# Altium footprint library StandardResistors.PcbLib: 5 footprints
Each footprint in its own frame and in the unit in brackets; x right, y up, seen from the top. Pads: shape width x height; smd on the part's side, far side on the other; paste and mask are expansions set on the pad; w line width, h text height; cw(c..) or ccw(c..) is an arc to the next point about the centre after c.
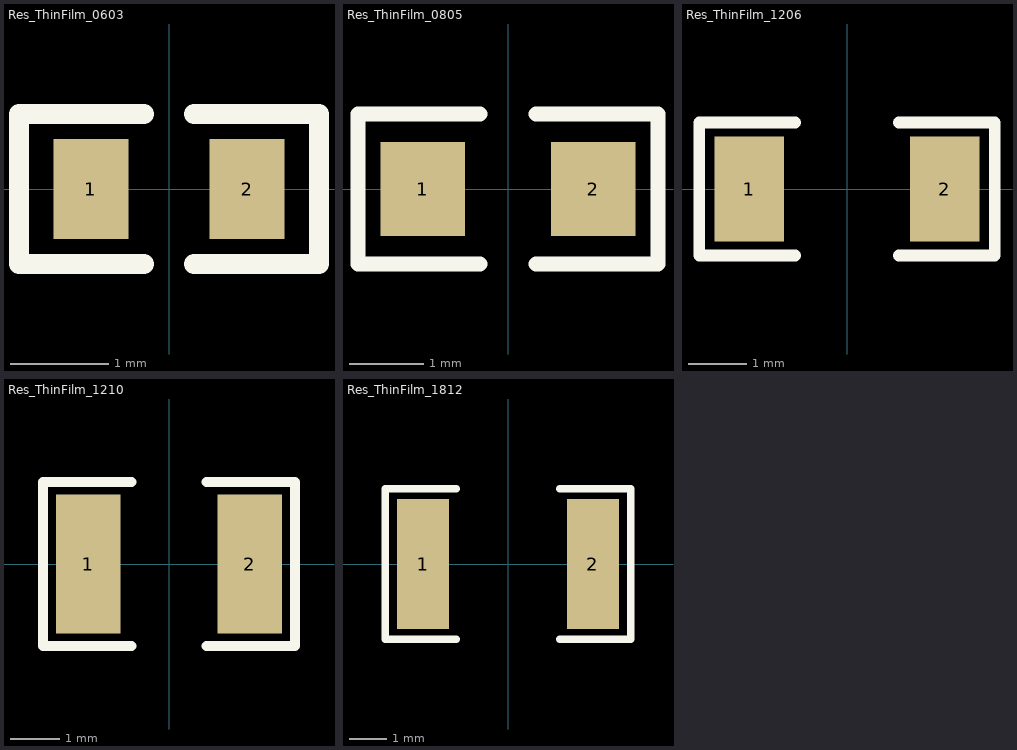
[diagram p0: the footprints below, top view; thin cyan lines are the x and y axes]

## Res_ThinFilm_0603 [mil]
pads (2):
  rect 30x40 smd: 1(-31.24,0) 2(31.24,0)
Top Overlay:
  lines w8: -10,-30 -60,-30 -60,30 -10,30 ; 10,-30 60,-30 60,30 10,30
3D body "rsmd-0603_l1-6_w0-8_h0-45.stp": height 17.72, standoff 0, extent -31.49,-15.74 31.5,15.75

## Res_ThinFilm_0805 [mil]
pads (2):
  rect 45x50 smd: 1(-45.43,0) 2(45.43,0)
Top Overlay:
  lines w8: -15,-40 -80,-40 -80,40 -15,40 ; 15,-40 80,-40 80,40 15,40
3D body "rsmd-0805_l2_w1-25_h0-6.stp": height 23.62, standoff 0, extent -39.36,-24.6 39.38,24.61

## Res_ThinFilm_1206 [mil]
pads (2):
  rect 47x71 smd: 1(-66.08,0) 2(66.08,0)
Top Overlay:
  lines w8: -35,-45 -100,-45 -100,45 -35,45 ; 35,-45 100,-45 100,45 35,45
3D body "rsmd-1206_l3-2_w1-6_h0-6.stp": height 23.62, standoff 0, extent -62.99,-31.49 63,31.5

## Res_ThinFilm_1210 [mm]
pads (2):
  rect 1.3x2.8 smd: 1(-1.625,0) 2(1.625,0)
Top Overlay:
  lines w0.203: -0.762,-1.651 -2.54,-1.651 -2.54,1.651 -0.762,1.651 ; 0.762,-1.651 2.54,-1.651 2.54,1.651 0.762,1.651
3D body "rsmd-1210_l3-2_w2-5_h0-6.stp": height 0.6, standoff 0, extent -1.6,-1.25 1.6,1.25

## Res_ThinFilm_1812 [mil]
pads (2):
  rect 55x138 smd: 1(-90,0) 2(90,0)
Top Overlay:
  lines w8: -55,-80 -130,-80 -130,80 -55,80 ; 55,-80 130,-80 130,80 55,80
3D body "rsmd-1812_l4-5_w3-2_h0-6.stp": height 23.62, standoff 0, extent -88.58,-62.99 88.59,63